# Altium footprint library dsPIC Click_1.PcbLib: 24 footprints (part 2 of 2)
Each footprint in its own frame and in the unit in brackets; x right, y up, seen from the top. Pads: shape width x height; smd on the part's side, far side on the other; paste and mask are expansions set on the pad; w line width, h text height; cw(c..) or ccw(c..) is an arc to the next point about the centre after c.
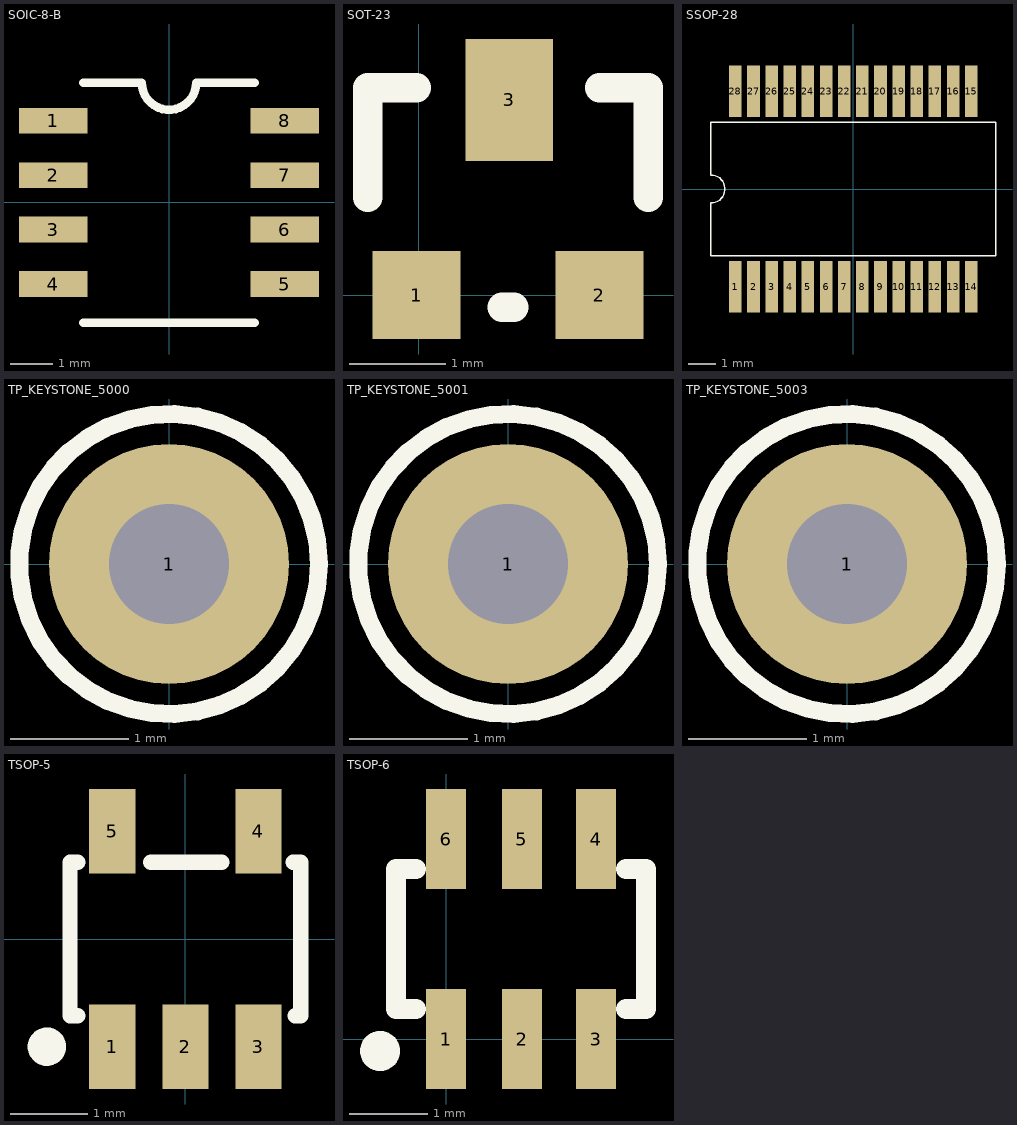
[diagram p1: the footprints below, top view; thin cyan lines are the x and y axes]

## SOIC-8-B [mm]
height 1.1
pads (8):
  rect 1.6x0.6 smd: 1(-2.7,1.905) 2(-2.7,0.635) 3(-2.7,-0.635) 4(-2.7,-1.905) 5(2.7,-1.905) 6(2.7,-0.635) 7(2.7,0.635) 8(2.7,1.905)
Top Overlay:
  lines w0.2: -2,-2.805 2,-2.805 ; -2,2.795 -0.635,2.795 ccw(c0,2.795) 0.635,2.795 2,2.795
3D body: height 1.85, standoff 0, extent -2.997,-2.452 2.998,2.453

## SOT-23 [mil]
height 751.97
pads (3):
  rect 36x36 smd: 1(-1,0) 2(74,0)
  rect 36x50 smd: 3(37,80)
Top Overlay:
  lines w12: -21,40 -21,85 -1,85 ; 34,-5 39,-5 ; 74,85 94,85 94,40
3D body: height 47.24, standoff 0, extent -22.64,-7.87 95.47,90.56

## SSOP-28 [mm]
height 2.4
pads (28):
  rect 0.45x1.85 smd mask+0.08: 1(-4.225,-3.5) 2(-3.575,-3.5) 3(-2.925,-3.5) 4(-2.275,-3.5) 5(-1.625,-3.5) 6(-0.975,-3.5) 7(-0.325,-3.5) 8(0.325,-3.5) 9(0.975,-3.5) 10(1.625,-3.5) 11(2.275,-3.5) 12(2.925,-3.5) 13(3.575,-3.5) 14(4.225,-3.5) 15(4.225,3.5) 16(3.575,3.5) 17(2.925,3.5) 18(2.275,3.5) 19(1.625,3.5) 20(0.975,3.5) 21(0.325,3.5) 22(-0.325,3.5) 23(-0.975,3.5) 24(-1.625,3.5) 25(-2.275,3.5) 26(-2.925,3.5) 27(-3.575,3.5) 28(-4.225,3.5)
Top Overlay:
  lines w0.05: -5.1,-2.4 -5.1,-0.5 ccw(c-5.1,0) -5.1,0.5 -5.1,2.4 5.1,2.4 5.1,-2.4 -5.1,-2.4
3D body: height 2.1, standoff 0, extent -5.1,-3.9 5.1,3.9

## TP_KEYSTONE_5000 [mil] "Red"
height 751.97
pads (1):
  round 80 hole 40: 1(0,0)
Top Overlay:
  circle w6: c0,0 r50
3D body: height 180.49, standoff -120.08, extent -50,-50 50,50

## TP_KEYSTONE_5001 [mil] "Black"
height 751.97
pads (1):
  round 80 hole 40: 1(0,0)
Top Overlay:
  circle w6: c0,0 r50
3D body: height 180.49, standoff -120.08, extent -50,-50 50,50

## TP_KEYSTONE_5003 [mil] "Orange"
height 751.97
pads (1):
  round 80 hole 40: 1(0,0)
Top Overlay:
  circle w6: c0,0 r50
3D body: height 180.49, standoff -120.08, extent -50,-50 50,50

## TSOP-5 [mm] "Small Outline; 6 Leads (1 Absent); Body Width 4.4 mm; Pitch 1.27 mm"
height 2.4
pads (5):
  rect 0.6x1.1 smd: 1(-0.95,-1.4) 2(0,-1.4) 3(0.95,-1.4) 4(0.95,1.4) 5(-0.95,1.4)
Top Overlay:
  circle w0.25: c-1.8,-1.4 r0.125
  lines w0.2: -1.4,-1 -1.5,-1 -1.5,1 -1.4,1 ; -0.45,1 0.475,1 ; 1.4,1 1.5,1 1.5,-1 1.425,-1
3D body: height 0.95, standoff 0, extent -1.45,-1.4 1.45,1.4

## TSOP-6 [mil]
pads (6):
  rect 20x50 smd: 1(0,0) 2(38,0) 3(75,0) 4(75,100) 5(37.99,100) 6(0,100)
Top Overlay:
  circle w10: c-33,-6 r5
  lines w10: -15,15 -25,15 -25,85 -15,85 ; 90,15 100,15 100,85 90,85